# Altium footprint library PCI-EDGE.PcbLib: 1 footprints
Each footprint in its own frame and in the unit in brackets; x right, y up, seen from the top. Pads: shape width x height; smd on the part's side, far side on the other; paste and mask are expansions set on the pad; w line width, h text height; cw(c..) or ccw(c..) is an arc to the next point about the centre after c.
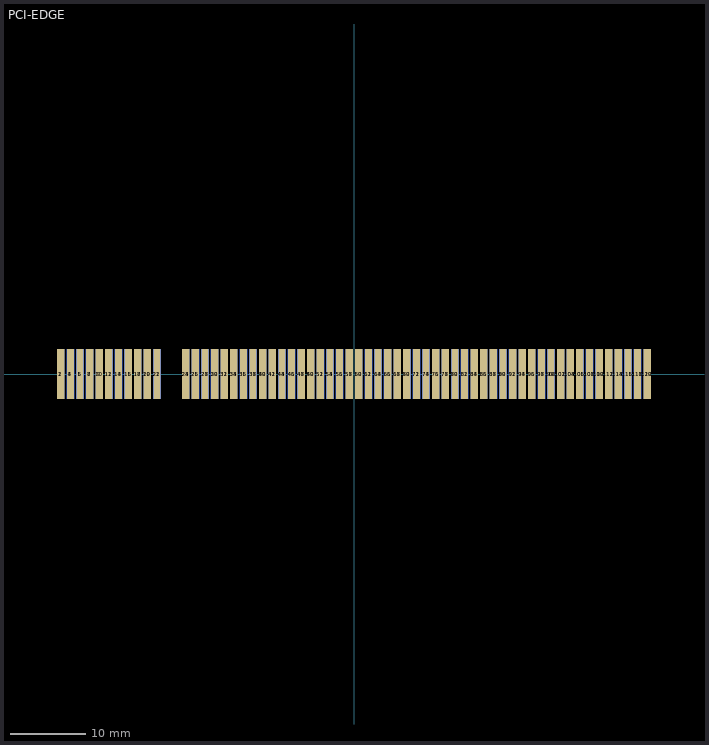
[diagram p0: the footprint, top view; thin cyan lines are the x and y axes]

## PCI-EDGE [mil]
pads (120):
  rect 38x260 smd far side: 1(-1525,0) 3(-1475,0) 5(-1425,0) 7(-1375,0) 9(-1325,0) 11(-1275,0) 13(-1225,0) 15(-1175,0) 17(-1125,0) 19(-1075,0) 21(-1025,0) 23(-875,0) 25(-825,0) 27(-775,0) 29(-725,0) 31(-675,0) 33(-625,0) 35(-575,0) 37(-525,0) 39(-475,0) 41(-425,0) 43(-375,0) 45(-325,0) 47(-275,0) 49(-225,0) 51(-175,0) 53(-125,0) 55(-75,0) 57(-25,0) 59(25,0) 61(75,0) 63(125,0) 65(175,0) 67(225,0) 69(275,0) 71(325,0) 73(375,0) 75(425,0) 77(475,0) 79(525,0) 81(575,0) 83(625,0) 85(675,0) 87(725,0) 89(775,0) 91(825,0) 93(875,0) 95(925,0) 97(975,0) 99(1025,0) 101(1075,0) 103(1125,0) 105(1175,0) 107(1225,0) 109(1275,0) 111(1325,0) 113(1375,0) 115(1425,0) 117(1475,0) 119(1525,0)
  rect 38x260 smd paste+0: 2(-1525,0)
  rect 38x260 smd: 4(-1475,0) 6(-1425,0) 8(-1375,0) 10(-1325,0) 12(-1275,0) 14(-1225,0) 16(-1175,0) 18(-1125,0) 20(-1075,0) 22(-1025,0) 24(-875,0) 26(-825,0) 28(-775,0) 30(-725,0) 32(-675,0) 34(-625,0) 36(-575,0) 38(-525,0) 40(-475,0) 42(-425,0) 44(-375,0) 46(-325,0) 48(-275,0) 50(-225,0) 52(-175,0) 54(-125,0) 56(-75,0) 58(-25,0) 60(25,0) 62(75,0) 64(125,0) 66(175,0) 68(225,0) 70(275,0) 72(325,0) 74(375,0) 76(425,0) 78(475,0) 80(525,0) 82(575,0) 84(625,0) 86(675,0) 88(725,0) 90(775,0) 92(825,0) 94(875,0) 96(925,0) 98(975,0) 100(1025,0) 102(1075,0) 104(1125,0) 106(1175,0) 108(1225,0) 110(1275,0) 112(1325,0) 114(1375,0) 116(1425,0) 118(1475,0) 120(1525,0)